# EAGLE library part FBDIMM-240-DDR2 (library project)
240-Pin DDR2 SDRAM FBDIMM (MO-256 R/C B), open top
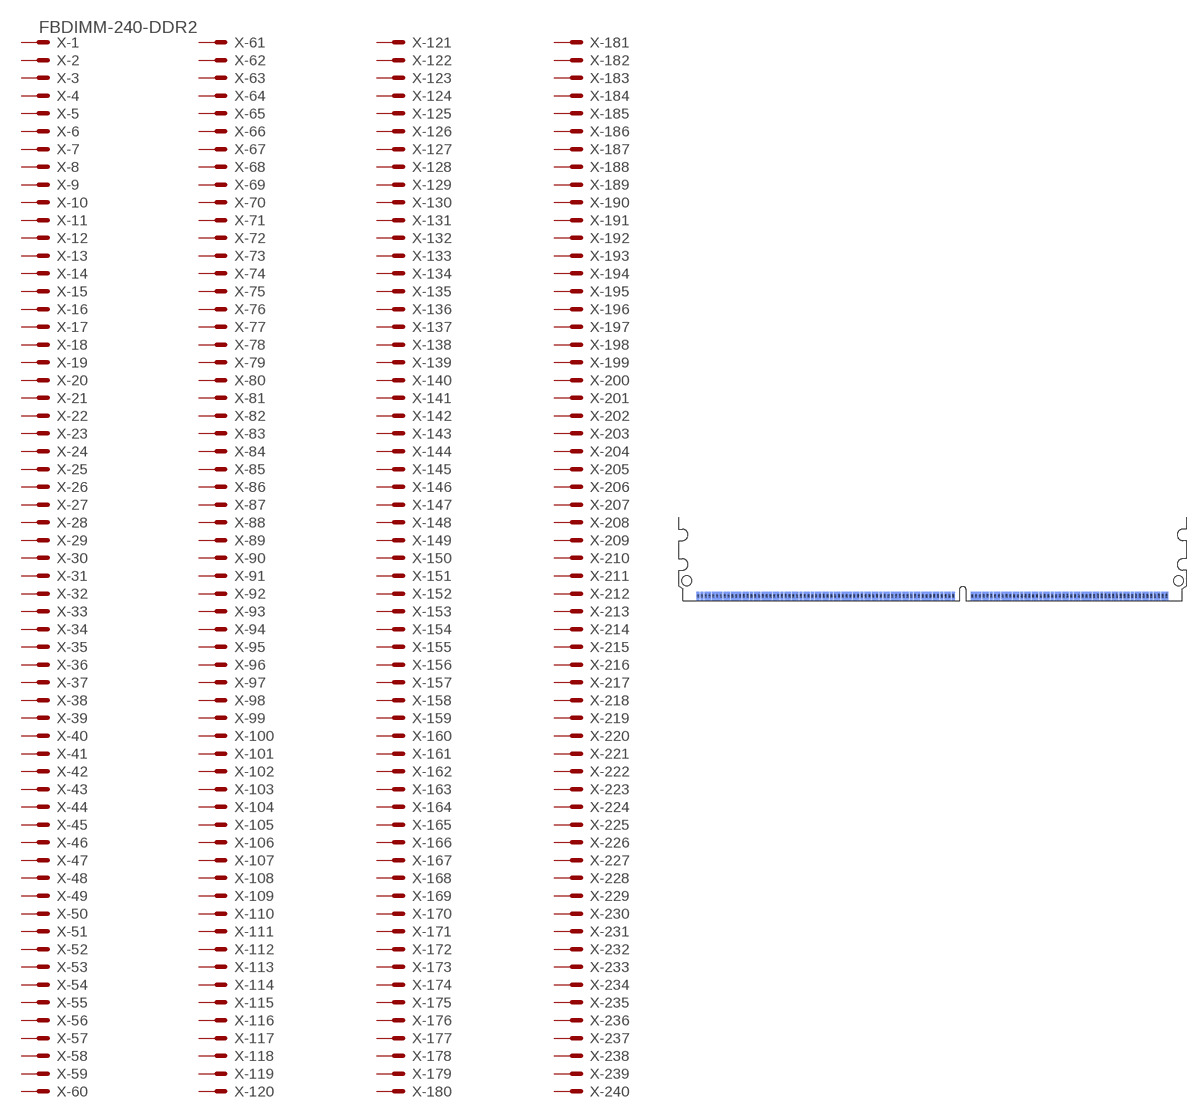
[diagram p16: symbol with the pads of FBDIMM-240-DDR2; footprint FBDIMM-240-DDR2]

Designator prefix X; gates -1=MSV -2=M -3=M -4=M -5=M -6=M -7=M -8=M -9=M -10=M -11=M -12=M -13=M -14=M -15=M -16=M -17=M -18=M -19=M -20=M -21=M -22=M -23=M -24=M -25=M -26=M -27=M -28=M -29=M -30=M -31=M -32=M -33=M -34=M -35=M -36=M -37=M -38=M -39=M -40=M -41=M -42=M -43=M -44=M -45=M -46=M -47=M -48=M -49=M -50=M -51=M -52=M -53=M -54=M -55=M -56=M -57=M -58=M -59=M -60=M -61=M -62=M -63=M -64=M -65=M -66=M -67=M -68=M -69=M -70=M -71=M -72=M -73=M -74=M -75=M -76=M -77=M -78=M -79=M -80=M -81=M -82=M -83=M -84=M -85=M -86=M -87=M -88=M -89=M -90=M -91=M -92=M -93=M -94=M -95=M -96=M -97=M -98=M -99=M -100=M -101=M -102=M -103=M -104=M -105=M -106=M -107=M -108=M -109=M -110=M -111=M -112=M -113=M -114=M -115=M -116=M -117=M -118=M -119=M -120=M -121=M -122=M -123=M -124=M -125=M -126=M -127=M -128=M -129=M -130=M -131=M -132=M -133=M -134=M -135=M -136=M -137=M -138=M -139=M -140=M -141=M -142=M -143=M -144=M -145=M -146=M -147=M -148=M -149=M -150=M -151=M -152=M -153=M -154=M -155=M -156=M -157=M -158=M -159=M -160=M -161=M -162=M -163=M -164=M -165=M -166=M -167=M -168=M -169=M -170=M -171=M -172=M -173=M -174=M -175=M -176=M -177=M -178=M -179=M -180=M -181=M -182=M -183=M -184=M -185=M -186=M -187=M -188=M -189=M -190=M -191=M -192=M -193=M -194=M -195=M -196=M -197=M -198=M -199=M -200=M -201=M -202=M -203=M -204=M -205=M -206=M -207=M -208=M -209=M -210=M -211=M -212=M -213=M -214=M -215=M -216=M -217=M -218=M -219=M -220=M -221=M -222=M -223=M -224=M -225=M -226=M -227=M -228=M -229=M -230=M -231=M -232=M -233=M -234=M -235=M -236=M -237=M -238=M -239=M -240=M

## FBDIMM-240-DDR2  [FBDIMM-240-DDR2]
1  -1:MSV  pas
2  -2:S  pas
3  -3:S  pas
4  -4:S  pas
5  -5:S  pas
6  -6:S  pas
7  -7:S  pas
8  -8:S  pas
9  -9:S  pas
10  -10:S  pas
11  -11:S  pas
12  -12:S  pas
13  -13:S  pas
14  -14:S  pas
15  -15:S  pas
16  -16:S  pas
17  -17:S  pas
18  -18:S  pas
19  -19:S  pas
20  -20:S  pas
21  -21:S  pas
22  -22:S  pas
23  -23:S  pas
24  -24:S  pas
25  -25:S  pas
26  -26:S  pas
27  -27:S  pas
28  -28:S  pas
29  -29:S  pas
30  -30:S  pas
31  -31:S  pas
32  -32:S  pas
33  -33:S  pas
34  -34:S  pas
35  -35:S  pas
36  -36:S  pas
37  -37:S  pas
38  -38:S  pas
39  -39:S  pas
40  -40:S  pas
41  -41:S  pas
42  -42:S  pas
43  -43:S  pas
44  -44:S  pas
45  -45:S  pas
46  -46:S  pas
47  -47:S  pas
48  -48:S  pas
49  -49:S  pas
50  -50:S  pas
51  -51:S  pas
52  -52:S  pas
53  -53:S  pas
54  -54:S  pas
55  -55:S  pas
56  -56:S  pas
57  -57:S  pas
58  -58:S  pas
59  -59:S  pas
60  -60:S  pas
61  -61:S  pas
62  -62:S  pas
63  -63:S  pas
64  -64:S  pas
65  -65:S  pas
66  -66:S  pas
67  -67:S  pas
68  -68:S  pas
69  -69:S  pas
70  -70:S  pas
71  -71:S  pas
72  -72:S  pas
73  -73:S  pas
74  -74:S  pas
75  -75:S  pas
76  -76:S  pas
77  -77:S  pas
78  -78:S  pas
79  -79:S  pas
80  -80:S  pas
81  -81:S  pas
82  -82:S  pas
83  -83:S  pas
84  -84:S  pas
85  -85:S  pas
86  -86:S  pas
87  -87:S  pas
88  -88:S  pas
89  -89:S  pas
90  -90:S  pas
91  -91:S  pas
92  -92:S  pas
93  -93:S  pas
94  -94:S  pas
95  -95:S  pas
96  -96:S  pas
97  -97:S  pas
98  -98:S  pas
99  -99:S  pas
100  -100:S  pas
101  -101:S  pas
102  -102:S  pas
103  -103:S  pas
104  -104:S  pas
105  -105:S  pas
106  -106:S  pas
107  -107:S  pas
108  -108:S  pas
109  -109:S  pas
110  -110:S  pas
111  -111:S  pas
112  -112:S  pas
113  -113:S  pas
114  -114:S  pas
115  -115:S  pas
116  -116:S  pas
117  -117:S  pas
118  -118:S  pas
119  -119:S  pas
120  -120:S  pas
121  -121:S  pas
122  -122:S  pas
123  -123:S  pas
124  -124:S  pas
125  -125:S  pas
126  -126:S  pas
127  -127:S  pas
128  -128:S  pas
129  -129:S  pas
130  -130:S  pas
131  -131:S  pas
132  -132:S  pas
133  -133:S  pas
134  -134:S  pas
135  -135:S  pas
136  -136:S  pas
137  -137:S  pas
138  -138:S  pas
139  -139:S  pas
140  -140:S  pas
141  -141:S  pas
142  -142:S  pas
143  -143:S  pas
144  -144:S  pas
145  -145:S  pas
146  -146:S  pas
147  -147:S  pas
148  -148:S  pas
149  -149:S  pas
150  -150:S  pas
151  -151:S  pas
152  -152:S  pas
153  -153:S  pas
154  -154:S  pas
155  -155:S  pas
156  -156:S  pas
157  -157:S  pas
158  -158:S  pas
159  -159:S  pas
160  -160:S  pas
161  -161:S  pas
162  -162:S  pas
163  -163:S  pas
164  -164:S  pas
165  -165:S  pas
166  -166:S  pas
167  -167:S  pas
168  -168:S  pas
169  -169:S  pas
170  -170:S  pas
171  -171:S  pas
172  -172:S  pas
173  -173:S  pas
174  -174:S  pas
175  -175:S  pas
176  -176:S  pas
177  -177:S  pas
178  -178:S  pas
179  -179:S  pas
180  -180:S  pas
181  -181:S  pas
182  -182:S  pas
183  -183:S  pas
184  -184:S  pas
185  -185:S  pas
186  -186:S  pas
187  -187:S  pas
188  -188:S  pas
189  -189:S  pas
190  -190:S  pas
191  -191:S  pas
192  -192:S  pas
193  -193:S  pas
194  -194:S  pas
195  -195:S  pas
196  -196:S  pas
197  -197:S  pas
198  -198:S  pas
199  -199:S  pas
200  -200:S  pas
201  -201:S  pas
202  -202:S  pas
203  -203:S  pas
204  -204:S  pas
205  -205:S  pas
206  -206:S  pas
207  -207:S  pas
208  -208:S  pas
209  -209:S  pas
210  -210:S  pas
211  -211:S  pas
212  -212:S  pas
213  -213:S  pas
214  -214:S  pas
215  -215:S  pas
216  -216:S  pas
217  -217:S  pas
218  -218:S  pas
219  -219:S  pas
220  -220:S  pas
221  -221:S  pas
222  -222:S  pas
223  -223:S  pas
224  -224:S  pas
225  -225:S  pas
226  -226:S  pas
227  -227:S  pas
228  -228:S  pas
229  -229:S  pas
230  -230:S  pas
231  -231:S  pas
232  -232:S  pas
233  -233:S  pas
234  -234:S  pas
235  -235:S  pas
236  -236:S  pas
237  -237:S  pas
238  -238:S  pas
239  -239:S  pas
240  -240:S  pas

## Footprint FBDIMM-240-DDR2 (pad centres in mm)
240-Pin DDR2 SDRAM FBDIMM (MO-256 R/C B), open top Source: www.micron.com .. GTF18C256x72FD.pdf
smd 0.8 x 2.3: 1 -69.5,1.25; 2 -68.5,1.25; 3 -67.5,1.25; 4 -66.5,1.25; 5 -65.5,1.25; 6 -64.5,1.25; 7 -63.5,1.25; 8 -62.5,1.25; 9 -61.5,1.25; 10 -60.5,1.25; 11 -59.5,1.25; 12 -58.5,1.25; 13 -57.5,1.25; 14 -56.5,1.25; 15 -55.5,1.25; 16 -54.5,1.25; 17 -53.5,1.25; 18 -52.5,1.25; 19 -51.5,1.25; 20 -50.5,1.25; 21 -49.5,1.25; 22 -48.5,1.25; 23 -47.5,1.25; 24 -46.5,1.25; 25 -45.5,1.25; 26 -44.5,1.25; 27 -43.5,1.25; 28 -42.5,1.25; 29 -41.5,1.25; 30 -40.5,1.25; 31 -39.5,1.25; 32 -38.5,1.25; 33 -37.5,1.25; 34 -36.5,1.25; 35 -35.5,1.25; 36 -34.5,1.25; 37 -33.5,1.25; 38 -32.5,1.25; 39 -31.5,1.25; 40 -30.5,1.25; 41 -29.5,1.25; 42 -28.5,1.25; 43 -27.5,1.25; 44 -26.5,1.25; 45 -25.5,1.25; 46 -24.5,1.25; 47 -23.5,1.25; 48 -22.5,1.25; 49 -21.5,1.25; 50 -20.5,1.25; 51 -19.5,1.25; 52 -18.5,1.25; 53 -17.5,1.25; 54 -16.5,1.25; 55 -15.5,1.25; 56 -14.5,1.25; 57 -13.5,1.25; 58 -12.5,1.25; 59 -11.5,1.25; 60 -10.5,1.25; 61 -9.5,1.25; 62 -8.5,1.25; 63 -7.5,1.25; 64 -6.5,1.25; 65 -5.5,1.25; 66 -4.5,1.25; 67 -3.5,1.25; 68 -2.5,1.25; 69 2.5,1.25; 70 3.5,1.25; 71 4.5,1.25; 72 5.5,1.25; 73 6.5,1.25; 74 7.5,1.25; 75 8.5,1.25; 76 9.5,1.25; 77 10.5,1.25; 78 11.5,1.25; 79 12.5,1.25; 80 13.5,1.25; 81 14.5,1.25; 82 15.5,1.25; 83 16.5,1.25; 84 17.5,1.25; 85 18.5,1.25; 86 19.5,1.25; 87 20.5,1.25; 88 21.5,1.25; 89 22.5,1.25; 90 23.5,1.25; 91 24.5,1.25; 92 25.5,1.25; 93 26.5,1.25; 94 27.5,1.25; 95 28.5,1.25; 96 29.5,1.25; 97 30.5,1.25; 98 31.5,1.25; 99 32.5,1.25; 100 33.5,1.25; 101 34.5,1.25; 102 35.5,1.25; 103 36.5,1.25; 104 37.5,1.25; 105 38.5,1.25; 106 39.5,1.25; 107 40.5,1.25; 108 41.5,1.25; 109 42.5,1.25; 110 43.5,1.25; 111 44.5,1.25; 112 45.5,1.25; 113 46.5,1.25; 114 47.5,1.25; 115 48.5,1.25; 116 49.5,1.25; 117 50.5,1.25; 118 51.5,1.25; 119 52.5,1.25; 120 53.5,1.25
smd 0.8 x 2.3 bottom: 121 -69.5,1.25; 122 -68.5,1.25; 123 -67.5,1.25; 124 -66.5,1.25; 125 -65.5,1.25; 126 -64.5,1.25; 127 -63.5,1.25; 128 -62.5,1.25; 129 -61.5,1.25; 130 -60.5,1.25; 131 -59.5,1.25; 132 -58.5,1.25; 133 -57.5,1.25; 134 -56.5,1.25; 135 -55.5,1.25; 136 -54.5,1.25; 137 -53.5,1.25; 138 -52.5,1.25; 139 -51.5,1.25; 140 -50.5,1.25; 141 -49.5,1.25; 142 -48.5,1.25; 143 -47.5,1.25; 144 -46.5,1.25; 145 -45.5,1.25; 146 -44.5,1.25; 147 -43.5,1.25; 148 -42.5,1.25; 149 -41.5,1.25; 150 -40.5,1.25; 151 -39.5,1.25; 152 -38.5,1.25; 153 -37.5,1.25; 154 -36.5,1.25; 155 -35.5,1.25; 156 -34.5,1.25; 157 -33.5,1.25; 158 -32.5,1.25; 159 -31.5,1.25; 160 -30.5,1.25; 161 -29.5,1.25; 162 -28.5,1.25; 163 -27.5,1.25; 164 -26.5,1.25; 165 -25.5,1.25; 166 -24.5,1.25; 167 -23.5,1.25; 168 -22.5,1.25; 169 -21.5,1.25; 170 -20.5,1.25; 171 -19.5,1.25; 172 -18.5,1.25; 173 -17.5,1.25; 174 -16.5,1.25; 175 -15.5,1.25; 176 -14.5,1.25; 177 -13.5,1.25; 178 -12.5,1.25; 179 -11.5,1.25; 180 -10.5,1.25; 181 -9.5,1.25; 182 -8.5,1.25; 183 -7.5,1.25; 184 -6.5,1.25; 185 -5.5,1.25; 186 -4.5,1.25; 187 -3.5,1.25; 188 -2.5,1.25; 189 2.5,1.25; 190 3.5,1.25; 191 4.5,1.25; 192 5.5,1.25; 193 6.5,1.25; 194 7.5,1.25; 195 8.5,1.25; 196 9.5,1.25; 197 10.5,1.25; 198 11.5,1.25; 199 12.5,1.25; 200 13.5,1.25; 201 14.5,1.25; 202 15.5,1.25; 203 16.5,1.25; 204 17.5,1.25; 205 18.5,1.25; 206 19.5,1.25; 207 20.5,1.25; 208 21.5,1.25; 209 22.5,1.25; 210 23.5,1.25; 211 24.5,1.25; 212 25.5,1.25; 213 26.5,1.25; 214 27.5,1.25; 215 28.5,1.25; 216 29.5,1.25; 217 30.5,1.25; 218 31.5,1.25; 219 32.5,1.25; 220 33.5,1.25; 221 34.5,1.25; 222 35.5,1.25; 223 36.5,1.25; 224 37.5,1.25; 225 38.5,1.25; 226 39.5,1.25; 227 40.5,1.25; 228 41.5,1.25; 229 42.5,1.25; 230 43.5,1.25; 231 44.5,1.25; 232 45.5,1.25; 233 46.5,1.25; 234 47.5,1.25; 235 48.5,1.25; 236 49.5,1.25; 237 50.5,1.25; 238 51.5,1.25; 239 52.5,1.25; 240 53.5,1.25
hole 2.6 at -72.495,5.2
hole 2.6 at 56.645,5.2